# EAGLE library part DF17-80P (library Lysenko_Eagle_Lib)
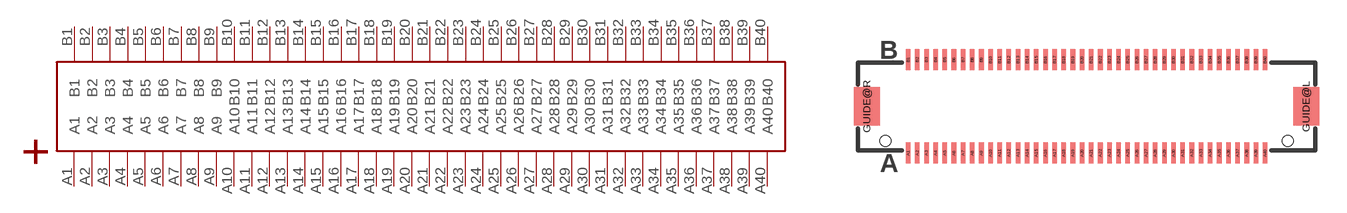
[diagram p1: symbol with the pads of DF17-80P; footprint DF17-80P]

Designator prefix -

## DF17-80P  [DF17-80P]
A1  A1
A2  A2
A3  A3
A4  A4
A5  A5
A6  A6
A7  A7
A8  A8
A9  A9
A10  A10
A11  A11
A12  A12
A13  A13
A14  A14
A15  A15
A16  A16
A17  A17
A18  A18
A19  A19
A20  A20
A21  A21
A22  A22
A23  A23
A24  A24
A25  A25
A26  A26
A27  A27
A28  A28
A29  A29
A30  A30
A31  A31
A32  A32
A33  A33
A34  A34
A35  A35
A36  A36
A37  A37
A38  A38
A39  A39
A40  A40
B1  B1
B2  B2
B3  B3
B4  B4
B5  B5
B6  B6
B7  B7
B8  B8
B9  B9
B10  B10
B11  B11
B12  B12
B13  B13
B14  B14
B15  B15
B16  B16
B17  B17
B18  B18
B19  B19
B20  B20
B21  B21
B22  B22
B23  B23
B24  B24
B25  B25
B26  B26
B27  B27
B28  B28
B29  B29
B30  B30
B31  B31
B32  B32
B33  B33
B34  B34
B35  B35
B36  B36
B37  B37
B38  B38
B39  B39
B40  B40

## Footprint DF17-80P (pad centres in mm)
smd 0.25 x 1.15: A1 -9.75,-2.553; A2 -9.25,-2.553; A3 -8.75,-2.553; A4 -8.25,-2.553; A5 -7.75,-2.553; A6 -7.25,-2.553; A7 -6.75,-2.553; A8 -6.25,-2.553; A9 -5.75,-2.553; A10 -5.25,-2.553; A11 -4.75,-2.553; A12 -4.25,-2.553; A13 -3.75,-2.553; A14 -3.25,-2.553; A15 -2.75,-2.553; A16 -2.25,-2.553; A17 -1.75,-2.553; A18 -1.25,-2.553; A19 -0.75,-2.553; A20 -0.25,-2.553; A21 0.25,-2.553; A22 0.75,-2.553; A23 1.25,-2.553; A24 1.75,-2.553; A25 2.25,-2.553; A26 2.75,-2.553; A27 3.25,-2.553; A28 3.75,-2.553; A29 4.25,-2.553; A30 4.75,-2.553; A31 5.25,-2.553; A32 5.75,-2.553; A33 6.25,-2.553; A34 6.75,-2.553; A35 7.25,-2.553; A36 7.75,-2.553; A37 8.25,-2.553; A38 8.75,-2.553; A39 9.25,-2.553; A40 9.75,-2.553; B1 -9.75,2.553; B2 -9.25,2.553; B3 -8.75,2.553; B4 -8.25,2.553; B5 -7.75,2.553; B6 -7.25,2.553; B7 -6.75,2.553; B8 -6.25,2.553; B9 -5.75,2.553; B10 -5.25,2.553; B11 -4.75,2.553; B12 -4.25,2.553; B13 -3.75,2.553; B14 -3.25,2.553; B15 -2.75,2.553; B16 -2.25,2.553; B17 -1.75,2.553; B18 -1.25,2.553; B19 -0.75,2.553; B20 -0.25,2.553; B21 0.25,2.553; B22 0.75,2.553; B23 1.25,2.553; B24 1.75,2.553; B25 2.25,2.553; B26 2.75,2.553; B27 3.25,2.553; B28 3.75,2.553; B29 4.25,2.553; B30 4.75,2.553; B31 5.25,2.553; B32 5.75,2.553; B33 6.25,2.553; B34 6.75,2.553; B35 7.25,2.553; B36 7.75,2.553; B37 8.25,2.553; B38 8.75,2.553; B39 9.25,2.553; B40 9.75,2.553
smd 1.4 x 2.1: GUIDE@L 12,0; GUIDE@R -12,0
hole 0.6 at 11,-1.9
hole 0.6 at -11,-1.9